# Altium schematic symbol library BCR133.SchLib: 1 symbol
Pins are listed as number, name and electrical type; pins without a type are passive.

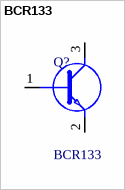
[diagram p0: symbol BCR133]

## BCR133
designator Q?
Infineon, BCR133 NPN Digital Transistor, 100 mA 50 V 10 k, Ratio Of 1, 3-Pin SOT-23; Geometry.Height: 1.1mm; Manufacturer_Name: Infineon; Manufacturer_Part_Number: BCR133; Mouser Part Number: *; Mouser Price/Stock: *; Arrow Part Number: *; Arrow Price/Stock: *; Datasheet Link: https://www.infineon.com/dgdl/Infineon-BCR133SERIES-DS-v01_01-en.pdf?fileId=db3a30431428a37301143f7f8a3f0288
footprint SOT95P240X110-3N
pins: 1 B, 2 E, 3 C